# EAGLE library part SND2537 (library led-7seg-samkwang)
LED Seven-Segment Samkwang - SND2537 Triple Digit Seven-Segment Display (anode common)
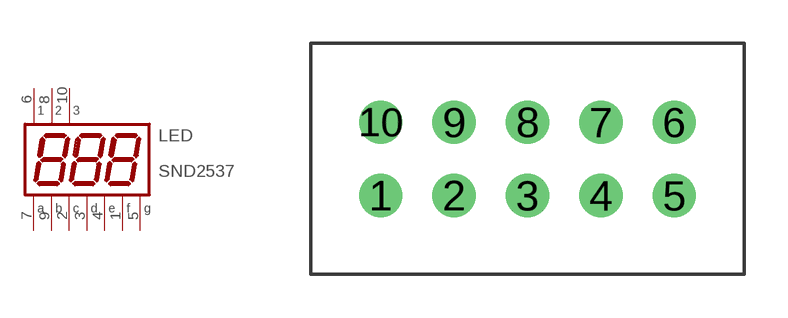
[diagram p0: symbol with the pads of SND2537-PKG; footprint SND2537-PKG]

Designator prefix LED

## SND2537  [SND2537-PKG]
1  F  pas
2  C  pas
3  D  pas
4  E  pas
5  G  pas
6  1  pas
7  A  pas
8  2  pas
9  B  pas
10  3  pas

## Footprint SND2537-PKG (pad centres in mm)
LED Seven-Segment Samkwang - SND2537 Triple Digit Seven-Segment Display (anode common)
drill 0.9 pad 1.5: 1 -5.08,-1.27; 2 -2.54,-1.27; 3 0,-1.27; 4 2.54,-1.27; 5 5.08,-1.27; 6 5.08,1.27; 7 2.54,1.27; 8 0,1.27; 9 -2.54,1.27; 10 -5.08,1.27